# Altium schematic symbol library Radar_10GHz.SchLib: 7 symbols
Pins are listed as number, name and electrical type; pins without a type are passive.

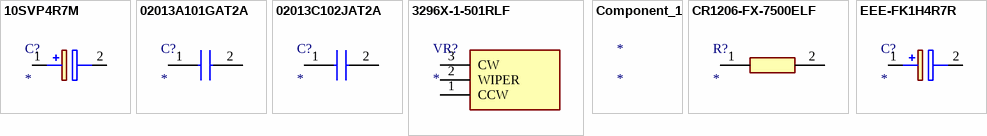
[diagram p0: symbols 10SVP4R7M to EEE-FK1H4R7R]

## 10SVP4R7M
designator C?
Capacitor Polarised; Manufacturer_Name: Panasonic; Manufacturer_Part_Number: 10SVP4R7M; Description: Panasonic 4.7uF 10 V dc Polymer Aluminium Electrolytic Capacitor A5; Datasheet Link: http://industrial.panasonic.com/cdbs/www-data/pdf/AAB8000/AAB8000C193.pdf; Height: 5.5mm; Mouser Part Number: 667-10SVP4R7M; Mouser Price/Stock: https://www.mouser.co.uk/ProductDetail/Panasonic/10SVP4R7M?qs=OE1iw1LrrPGNT%2FyEeV%2FacA%3D%3D; Arrow Part Number: 10SVP4R7M; Arrow Price/Stock: https://www.arrow.com/en/products/10svp4r7m/panasonic
footprint 10SVPS10M
pins: 1 +, 2 -

## 02013A101GAT2A
designator C?
Capacitor; Manufacturer_Name: Kyocera AVX; Manufacturer_Part_Number: 02013A101GAT2A; Datasheet Link: http://www.mouser.com/catalog/supplier/library/pdf/AVXSurfaceMountCeramic.pdf; Height: 0.33mm; Mouser Part Number: 581-02013A101GAT2A; Mouser Price/Stock: https://www.mouser.co.uk/ProductDetail/KYOCERA-AVX/02013A101GAT2A?qs=f21FSZc47PgIfVZWxI2rdg%3D%3D
footprint CAPC0603X33N
pins: 1, 2

## 02013C102JAT2A
designator C?
Capacitor; Manufacturer_Name: Kyocera AVX; Manufacturer_Part_Number: 02013C102JAT2A; Datasheet Link: http://www.mouser.com/catalog/supplier/library/pdf/AVXSurfaceMountCeramic.pdf; Height: 0.33mm; Mouser Part Number: 581-02013C102JAT2A; Mouser Price/Stock: https://www.mouser.co.uk/ProductDetail/AVX/02013C102JAT2A?qs=zKeCUPC1TQ0744pweOVFqQ%3D%3D; Arrow Part Number: 02013C102JAT2A; Arrow Price/Stock: https://www.arrow.com/en/products/02013c102jat2a/avx
footprint CAPC0603X33N
pins: 1, 2

## 3296X-1-501RLF
designator VR?
Variable Resistor; Manufacturer_Name: Bourns; Manufacturer_Part_Number: 3296X-1-501RLF; Description: Trimmer Resistors - Through Hole 1/2W 500ohm 10% Square Trimpot; Datasheet Link: https://www.bourns.com/pdfs/3296.pdf; Height: 10mm; Mouser Part Number: 652-3296X-1-501RLF; Mouser Price/Stock: https://www.mouser.co.uk/ProductDetail/Bourns/3296X-1-501RLF?qs=pxDZlBjcsCiC1uib8I6u%2FA%3D%3D
footprint 3296X1223LF
pins: 1 CCW, 2 WIPER, 3 CW

## Component_1
designator *

## CR1206-FX-7500ELF
designator R?
Resistor; Manufacturer_Name: Bourns; Manufacturer_Part_Number: CR1206-FX-7500ELF; Description: Thick Film Resistors - SMD 750ohm 1%; Datasheet Link: http://www.bourns.com/data/global/pdfs/CHPREZTR.pdf; Height: 0.75mm; Mouser Part Number: 652-CR1206FX-7500ELF; Mouser Price/Stock: https://www.mouser.co.uk/ProductDetail/Bourns/CR1206-FX-7500ELF?qs=x5wsLs3ZZ80RF%252BfrW3ztLA%3D%3D; Arrow Part Number: CR1206-FX-7500ELF; Arrow Price/Stock: https://www.arrow.com/en/products/cr1206-fx-7500elf/bourns?region=nac
footprint RESC3216X75N
pins: 1, 2

## EEE-FK1H4R7R
designator C?
Capacitor Polarised; Manufacturer_Name: Panasonic; Manufacturer_Part_Number: EEE-FK1H4R7R; Datasheet Link: http://industrial.panasonic.com/cdbs/www-data/pdf/RDE0000/ABA0000C1181.pdf; Height: 5.5mm; Mouser Part Number: 667-EEE-FK1H4R7R; Mouser Price/Stock: https://www.mouser.co.uk/ProductDetail/Panasonic/EEE-FK1H4R7R?qs=qE6bgDGEOCur97rwuEUvdw%3D%3D; Arrow Part Number: EEE-FK1H4R7R; Arrow Price/Stock: https://www.arrow.com/en/products/eee-fk1h4r7r/panasonic?region=europe
footprint EEE1AA220WR
pins: 1 +, 2 -